# Altium footprint library Relays.PcbLib: 1 footprints
Each footprint in its own frame and in the unit in brackets; x right, y up, seen from the top. Pads: shape width x height; smd on the part's side, far side on the other; paste and mask are expansions set on the pad; w line width, h text height; cw(c..) or ccw(c..) is an arc to the next point about the centre after c.
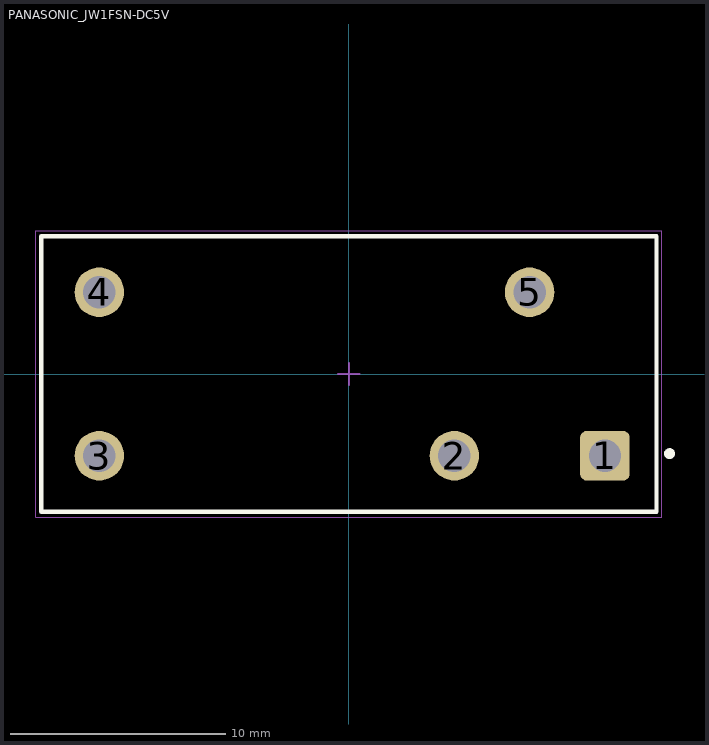
[diagram p0: the footprint, top view; thin cyan lines are the x and y axes]

## PANASONIC_JW1FSN-DC5V [mm] "General Purpose Relay SPDT (1 Form C) 5VDC Coil Through Hole"
pads (5):
  rrect25% 2.3x2.3 hole 1.5 paste-1000 mask+0.05: 1(11.9,-3.8)
  round 2.3 hole 1.5 paste-1000 mask+0.05: 2(4.9,-3.8) 3(-11.6,-3.8) 4(-11.6,3.8) 5(8.4,3.8)
Top Overlay:
  circle w0.25: c14.9,-3.7 r0.125
  lines w0.2: -14.3,-6.4 -14.3,6.4 14.3,6.4 14.3,-6.4 -14.3,-6.4
Bottom Overlay:
  lines w0.2: -11.525,-2.4 -11.525,-1.7 cw(c-11.525,-1.3) -11.525,-0.9 cw(c-11.525,-0.5) -11.525,-0.1 cw(c-11.525,0.3) -11.525,0.7 cw(c-11.525,1.1) -11.525,1.5 -11.525,2.4 ; 6.3,-3.85 6.675,-3.85 ; 7.3,-4.225 8.4,-1.325 8.4,2.4 ; 10.5,-3.825 10.05,-3.825 ; 6.675,-3.85 6.675,-3.55 7.175,-3.85 6.675,-4.15 6.675,-3.85 ; 10.05,-3.825 10.05,-4.125 9.55,-3.825 10.05,-3.525 10.05,-3.825
  lines w0.3: 6.675,-3.85 7.025,-3.85
  text "COM" at 9.601,5.127 h1.5
  text "N C" at 5.764,-5.998 h1.5
  text "N O" at 12.808,-5.998 h1.5
Top Component Outline:
  lines w0.1: -14.3,-6.4 -14.3,6.4 14.3,6.4 14.3,-6.4 -14.3,-6.4
Top Courtyard:
  lines w0.05: -14.55,-6.65 -14.55,6.65 14.55,6.65 14.55,-6.65 -14.55,-6.65
Top Component Center:
  lines w0.1: -0.5,0 0.5,0 ; 0,-0.5 0,0.5
Top Designator (Mech15):
  text ".Designator" at -4.04,-0.476 h2
Top Assembly:
  lines w0.1: -14.3,-6.4 -14.3,6.4 14.3,6.4 14.3,-6.4 -14.3,-6.4
  text ".Designator" at -4.04,-0.476 h2
3D body "PANASONIC_JW1FSN-B-DC5V.step": height 20.3, standoff -3.9, extent -14.3,-6.4 14.3,6.4